# EAGLE library part ST1L08SPU33R (library sjg-pixl)
LDO Voltage Regulators 800 mA Ultra low drop, high PSRR voltage regulator Source: Datasheet <https://www.st.com/resource/en/datasheet/st1l08.pdf>
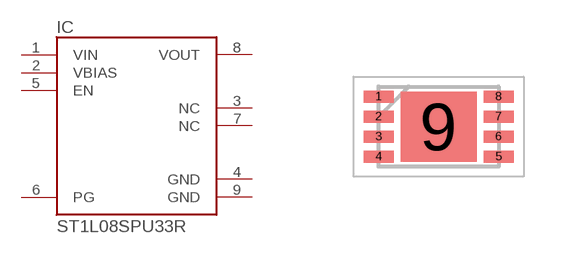
[diagram p12: symbol with the pads of SON50P300X200X100-9N; footprint SON50P300X200X100-9N]

Designator prefix IC

## ST1L08SPU33R (ARROW_PART_NUMBER: ST1L08SPU33R; ARROW_PRICE-STOCK: https://www.arrow.com/en/products/st1l08spu33r/stmicroelectronics; DESCRIPTION: LDO Voltage Regulators 800 mA Ultra low drop, high PSRR voltage regulator; HEIGHT: 1mm; MANUFACTURER_NAME: STMicroelectronics; MANUFACTURER_PART_NUMBER: ST1L08SPU33R; MOUSER_PART_NUMBER: 511-ST1L08SPU33R; MOUSER_PRICE-STOCK: https://www.mouser.co.uk/ProductDetail/STMicroelectronics/ST1L08SPU33R?qs=WHlX%252B%252B9%2FRwA1%2FERHVEnj4A%3D%3D)  [SON50P300X200X100-9N]
1  VIN
2  VBIAS
3  NC  nc
4  GND
5  EN
6  PG
7  NC  nc
8  VOUT
9  GND

## Footprint SON50P300X200X100-9N (pad centres in mm)
DFN8 (2x3 mm)
smd 0.75 x 0.3: 1 -1.5,0.75; 2 -1.5,0.25; 3 -1.5,-0.25; 4 -1.5,-0.75; 5 1.5,-0.75; 6 1.5,-0.25; 7 1.5,0.25; 8 1.5,0.75
smd 1.9 x 1.75: 9 0,0